# Altium integrated library TI Amplifiers and Linear Operational Amplifier High Speed.IntLib: 1100 symbols (part 29 of 44)
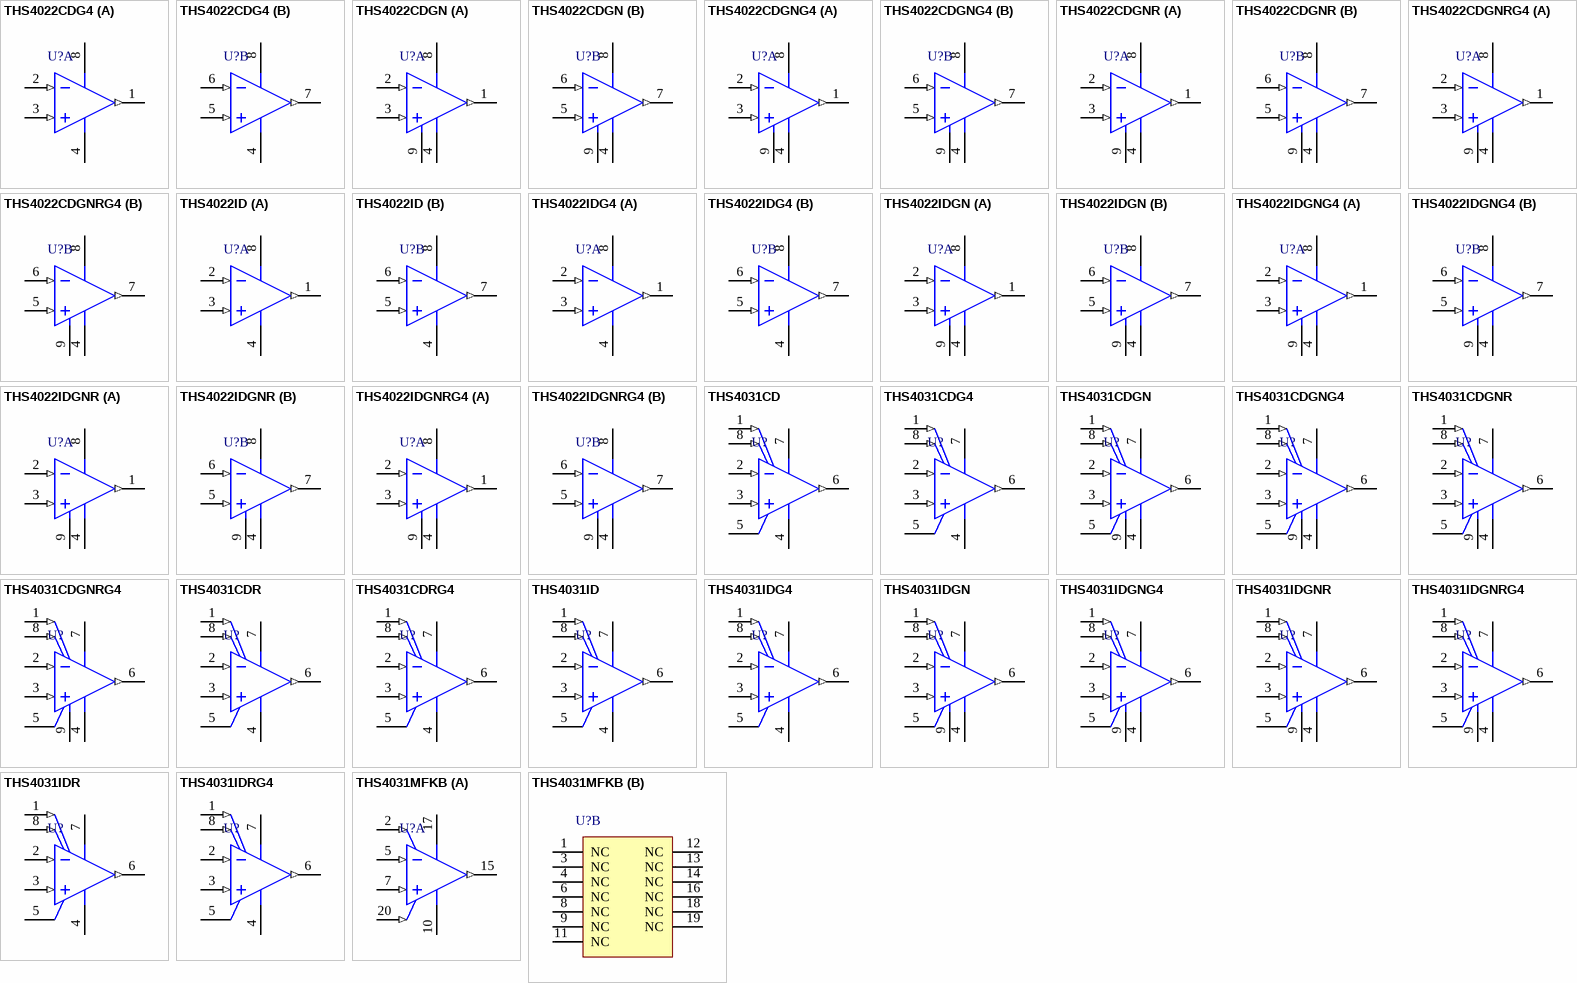
[diagram p79: symbols THS4022CDG4 to THS4031MFKB]

## THS4031IDG4
designator U?
100 MHz Low Noise Voltage-Feedback Amplifier, 9 to 32 V, -40 to 85 degC, 8-pin SOIC (D8), Green (RoHS & no Sb/Br); Manufacturer: Texas Instruments; PartNumber: THS4031IDG4; 2nd Harmonic(dBc): 65; 3rd Harmonic(dBc): 62; @ MHz: 5; Acl, min stable gain(V/V): 1; BW @ Acl(MHz): 100; Diff Gain(%): 0.015; Diff Phase(deg): 0.025; Iib(Max)(nA): 6000; Io(Typ)(mA): 90; Iq per channel(Max)(mA): 11; Settling Time (0.1%)(Typ)(ns): 60; Sub Family: High Output Current Amplifier (>=50mA), High Speed Amplifier (>=50MHz), High Supply Voltage Amplifier (>=30V); THD (Fc is 1 MHz)(Typ)(dB): -81; Vio(Max)(mV): 2; Vn at Flatband(Typ)(nV/rtHz): 1.6; Vs(Max)(V): 32; Vs(Min)(V): 9; DatasheetVersion: SLOS224G; PackageVersion: 4040047-3/M, 06/2011; PackageReference: D8; PackageDescription: 8-Pin Plastic Small Outline, Body 4.9 x 3.9 mm, Pitch 1.27 mm; Supplier 1: Digi-Key; Supplier Part Number 1: THS4031IDG4-ND; Supplier 2: Newark; Supplier Part Number 2: 33K6921; Supplier 3: Mouser; Supplier Part Number 3: 595-THS4031IDG4; Eco-Plan: Green (RoHS & no Sb/Br); Number of Channels: 1; Slew Rate(Typ)(V/us): 100; Mounting Technology: Surface Mount; Code_JEDEC: MS-012; ComponentLink1Description: Manufacturer URL; ComponentLink1URL: http://www.ti.com/; ComponentLink2Description: Datasheet; ComponentLink2URL: http://www.ti.com/general/docs/lit/getliterature.tsp?genericPartNumber=THS4031&fileType=pdf; ComponentLink3Description: Package Specification; ComponentLink3URL: http://www.ti.com/litv/pdf/msoi002j
footprint TI-D8_N (SOIC, 8-Leads, Body 4.9x3.9mm, Pitch 1.27mm, IPC Medium Density)
footprint TI-D8_L (SOIC, 8-Leads, Body 4.9x3.9mm, Pitch 1.27mm, IPC High Density)
footprint TI-D8_M (SOIC, 8-Leads, Body 4.9x3.9mm, Pitch 1.27mm, IPC Low Density)
pins: 1 NULL (in), 2 IN- (in), 3 IN+ (in), 4 VCC- (power), 5 NC, 6 OUT (out), 7 VCC+ (power), 8 NULL (in)

## THS4031IDGN
designator U?
100 MHz Low Noise Voltage-Feedback Amplifier, 9 to 32 V, -40 to 85 degC, 8-pin SOP (DGN8), Green (RoHS & no Sb/Br); Manufacturer: Texas Instruments; PartNumber: THS4031IDGN; 2nd Harmonic(dBc): 65; 3rd Harmonic(dBc): 62; @ MHz: 5; Acl, min stable gain(V/V): 1; BW @ Acl(MHz): 100; Diff Gain(%): 0.015; Diff Phase(deg): 0.025; Iib(Max)(nA): 6000; Io(Typ)(mA): 90; Iq per channel(Max)(mA): 11; Settling Time (0.1%)(Typ)(ns): 60; Sub Family: High Output Current Amplifier (>=50mA), High Speed Amplifier (>=50MHz), High Supply Voltage Amplifier (>=30V); THD (Fc is 1 MHz)(Typ)(dB): -81; Vio(Max)(mV): 2; Vn at Flatband(Typ)(nV/rtHz): 1.6; Vs(Max)(V): 32; Vs(Min)(V): 9; DatasheetVersion: SLOS224G; PackageVersion: 4073271/F, 05/2011; PackageReference: DGN8-1760X1425TP; PackageDescription: 8-pin Plastic Small Outline, Body 3 x 3 mm, Pitch 0.65 mm; Supplier 1: Digi-Key; Supplier Part Number 1: 296-10030-5-ND; Supplier 2: Farnell; Supplier Part Number 2: 8453195; Supplier 3: Newark; Supplier Part Number 3: 38K8245; Supplier 4: Newark; Supplier Part Number 4: 76C6309; Supplier 5: Mouser; Supplier Part Number 5: 595-THS4031IDGN; Eco-Plan: Green (RoHS & no Sb/Br); Number of Channels: 1; Slew Rate(Typ)(V/us): 100; Mounting Technology: Surface Mount; Code_JEDEC: MO-187; ComponentLink1Description: Manufacturer URL; ComponentLink1URL: http://www.ti.com/; ComponentLink2Description: Datasheet; ComponentLink2URL: http://www.ti.com/general/docs/lit/getliterature.tsp?genericPartNumber=THS4031&fileType=pdf; ComponentLink3Description: Package Specification; ComponentLink3URL: http://www.ti.com/litv/pdf/mpds046e
footprint TI-DGN8-1760X1425TP_N (SOP, 8-Leads, Body 3x3mm, Pitch 0.65mm, Thermal Pad 1.76x1.425mm, IPC Medium Density)
footprint TI-DGN8-1760X1425TP_L (SOP, 8-Leads, Body 3x3mm, Pitch 0.65mm, Thermal Pad 1.76x1.425mm, IPC High Density)
footprint TI-DGN8-1760X1425TP_M (SOP, 8-Leads, Body 3x3mm, Pitch 0.65mm, Thermal Pad 1.76 x 1.425 mm, IPC Low Density)
pins: 1 NULL (in), 2 IN- (in), 3 IN+ (in), 4 VCC- (power), 5 NC, 6 OUT (out), 7 VCC+ (power), 8 NULL (in), 9 EP (power)

## THS4031IDGNG4
designator U?
100 MHz Low Noise Voltage-Feedback Amplifier, 9 to 32 V, -40 to 85 degC, 8-pin SOP (DGN8), Green (RoHS & no Sb/Br); Manufacturer: Texas Instruments; PartNumber: THS4031IDGNG4; 2nd Harmonic(dBc): 65; 3rd Harmonic(dBc): 62; @ MHz: 5; Acl, min stable gain(V/V): 1; BW @ Acl(MHz): 100; Diff Gain(%): 0.015; Diff Phase(deg): 0.025; Iib(Max)(nA): 6000; Io(Typ)(mA): 90; Iq per channel(Max)(mA): 11; Settling Time (0.1%)(Typ)(ns): 60; Sub Family: High Output Current Amplifier (>=50mA), High Speed Amplifier (>=50MHz), High Supply Voltage Amplifier (>=30V); THD (Fc is 1 MHz)(Typ)(dB): -81; Vio(Max)(mV): 2; Vn at Flatband(Typ)(nV/rtHz): 1.6; Vs(Max)(V): 32; Vs(Min)(V): 9; DatasheetVersion: SLOS224G; PackageVersion: 4073271/F, 05/2011; PackageReference: DGN8-1760X1425TP; PackageDescription: 8-pin Plastic Small Outline, Body 3 x 3 mm, Pitch 0.65 mm; Supplier 1: Digi-Key; Supplier Part Number 1: THS4031IDGNG4-ND; Supplier 2: Mouser; Supplier Part Number 2: 595-THS4031IDGNG4; Eco-Plan: Green (RoHS & no Sb/Br); Number of Channels: 1; Slew Rate(Typ)(V/us): 100; Mounting Technology: Surface Mount; Code_JEDEC: MO-187; ComponentLink1Description: Manufacturer URL; ComponentLink1URL: http://www.ti.com/; ComponentLink2Description: Datasheet; ComponentLink2URL: http://www.ti.com/general/docs/lit/getliterature.tsp?genericPartNumber=THS4031&fileType=pdf; ComponentLink3Description: Package Specification; ComponentLink3URL: http://www.ti.com/litv/pdf/mpds046e
footprint TI-DGN8-1760X1425TP_N (SOP, 8-Leads, Body 3x3mm, Pitch 0.65mm, Thermal Pad 1.76x1.425mm, IPC Medium Density)
footprint TI-DGN8-1760X1425TP_L (SOP, 8-Leads, Body 3x3mm, Pitch 0.65mm, Thermal Pad 1.76x1.425mm, IPC High Density)
footprint TI-DGN8-1760X1425TP_M (SOP, 8-Leads, Body 3x3mm, Pitch 0.65mm, Thermal Pad 1.76 x 1.425 mm, IPC Low Density)
pins: 1 NULL (in), 2 IN- (in), 3 IN+ (in), 4 VCC- (power), 5 NC, 6 OUT (out), 7 VCC+ (power), 8 NULL (in), 9 EP (power)

## THS4031IDGNR
designator U?
100 MHz Low Noise Voltage-Feedback Amplifier, 9 to 32 V, -40 to 85 degC, 8-pin SOP (DGN8), Green (RoHS & no Sb/Br); Manufacturer: Texas Instruments; PartNumber: THS4031IDGNR; 2nd Harmonic(dBc): 65; 3rd Harmonic(dBc): 62; @ MHz: 5; Acl, min stable gain(V/V): 1; BW @ Acl(MHz): 100; Diff Gain(%): 0.015; Diff Phase(deg): 0.025; Iib(Max)(nA): 6000; Io(Typ)(mA): 90; Iq per channel(Max)(mA): 11; Settling Time (0.1%)(Typ)(ns): 60; Sub Family: High Output Current Amplifier (>=50mA), High Speed Amplifier (>=50MHz), High Supply Voltage Amplifier (>=30V); THD (Fc is 1 MHz)(Typ)(dB): -81; Vio(Max)(mV): 2; Vn at Flatband(Typ)(nV/rtHz): 1.6; Vs(Max)(V): 32; Vs(Min)(V): 9; DatasheetVersion: SLOS224G; PackageVersion: 4073271/F, 05/2011; PackageReference: DGN8-1760X1425TP; PackageDescription: 8-pin Plastic Small Outline, Body 3 x 3 mm, Pitch 0.65 mm; Supplier 1: Digi-Key; Supplier Part Number 1: 296-10030-2-ND; Supplier 2: Digi-Key; Supplier Part Number 2: 296-10030-1-ND; Supplier 3: Digi-Key; Supplier Part Number 3: 296-10030-6-ND; Supplier 4: Newark; Supplier Part Number 4: 76C6310; Supplier 5: Mouser; Supplier Part Number 5: 595-THS4031IDGNR; Eco-Plan: Green (RoHS & no Sb/Br); Number of Channels: 1; Slew Rate(Typ)(V/us): 100; Mounting Technology: Surface Mount; Code_JEDEC: MO-187; ComponentLink1Description: Manufacturer URL; ComponentLink1URL: http://www.ti.com/; ComponentLink2Description: Datasheet; ComponentLink2URL: http://www.ti.com/general/docs/lit/getliterature.tsp?genericPartNumber=THS4031&fileType=pdf; ComponentLink3Description: Package Specification; ComponentLink3URL: http://www.ti.com/litv/pdf/mpds046e
footprint TI-DGN8-1760X1425TP_N (SOP, 8-Leads, Body 3x3mm, Pitch 0.65mm, Thermal Pad 1.76x1.425mm, IPC Medium Density)
footprint TI-DGN8-1760X1425TP_L (SOP, 8-Leads, Body 3x3mm, Pitch 0.65mm, Thermal Pad 1.76x1.425mm, IPC High Density)
footprint TI-DGN8-1760X1425TP_M (SOP, 8-Leads, Body 3x3mm, Pitch 0.65mm, Thermal Pad 1.76 x 1.425 mm, IPC Low Density)
pins: 1 NULL (in), 2 IN- (in), 3 IN+ (in), 4 VCC- (power), 5 NC, 6 OUT (out), 7 VCC+ (power), 8 NULL (in), 9 EP (power)

## THS4031IDGNRG4
designator U?
100 MHz Low Noise Voltage-Feedback Amplifier, 9 to 32 V, -40 to 85 degC, 8-pin SOP (DGN8), Green (RoHS & no Sb/Br); Manufacturer: Texas Instruments; PartNumber: THS4031IDGNRG4; 2nd Harmonic(dBc): 65; 3rd Harmonic(dBc): 62; @ MHz: 5; Acl, min stable gain(V/V): 1; BW @ Acl(MHz): 100; Diff Gain(%): 0.015; Diff Phase(deg): 0.025; Iib(Max)(nA): 6000; Io(Typ)(mA): 90; Iq per channel(Max)(mA): 11; Settling Time (0.1%)(Typ)(ns): 60; Sub Family: High Output Current Amplifier (>=50mA), High Speed Amplifier (>=50MHz), High Supply Voltage Amplifier (>=30V); THD (Fc is 1 MHz)(Typ)(dB): -81; Vio(Max)(mV): 2; Vn at Flatband(Typ)(nV/rtHz): 1.6; Vs(Max)(V): 32; Vs(Min)(V): 9; DatasheetVersion: SLOS224G; PackageVersion: 4073271/F, 05/2011; PackageReference: DGN8-1760X1425TP; PackageDescription: 8-pin Plastic Small Outline, Body 3 x 3 mm, Pitch 0.65 mm; Supplier 1: Digi-Key; Supplier Part Number 1: THS4031IDGNRG4-ND; Supplier 2: Mouser; Supplier Part Number 2: 595-THS4031IDGNRG4; Eco-Plan: Green (RoHS & no Sb/Br); Number of Channels: 1; Slew Rate(Typ)(V/us): 100; Mounting Technology: Surface Mount; Code_JEDEC: MO-187; ComponentLink1Description: Manufacturer URL; ComponentLink1URL: http://www.ti.com/; ComponentLink2Description: Datasheet; ComponentLink2URL: http://www.ti.com/general/docs/lit/getliterature.tsp?genericPartNumber=THS4031&fileType=pdf; ComponentLink3Description: Package Specification; ComponentLink3URL: http://www.ti.com/litv/pdf/mpds046e
footprint TI-DGN8-1760X1425TP_N (SOP, 8-Leads, Body 3x3mm, Pitch 0.65mm, Thermal Pad 1.76x1.425mm, IPC Medium Density)
footprint TI-DGN8-1760X1425TP_L (SOP, 8-Leads, Body 3x3mm, Pitch 0.65mm, Thermal Pad 1.76x1.425mm, IPC High Density)
footprint TI-DGN8-1760X1425TP_M (SOP, 8-Leads, Body 3x3mm, Pitch 0.65mm, Thermal Pad 1.76 x 1.425 mm, IPC Low Density)
pins: 1 NULL (in), 2 IN- (in), 3 IN+ (in), 4 VCC- (power), 5 NC, 6 OUT (out), 7 VCC+ (power), 8 NULL (in), 9 EP (power)

## THS4031IDR
designator U?
100 MHz Low Noise Voltage-Feedback Amplifier, 9 to 32 V, -40 to 85 degC, 8-pin SOIC (D8), Green (RoHS & no Sb/Br); Manufacturer: Texas Instruments; PartNumber: THS4031IDR; 2nd Harmonic(dBc): 65; 3rd Harmonic(dBc): 62; @ MHz: 5; Acl, min stable gain(V/V): 1; BW @ Acl(MHz): 100; Diff Gain(%): 0.015; Diff Phase(deg): 0.025; Iib(Max)(nA): 6000; Io(Typ)(mA): 90; Iq per channel(Max)(mA): 11; Settling Time (0.1%)(Typ)(ns): 60; Sub Family: High Output Current Amplifier (>=50mA), High Speed Amplifier (>=50MHz), High Supply Voltage Amplifier (>=30V); THD (Fc is 1 MHz)(Typ)(dB): -81; Vio(Max)(mV): 2; Vn at Flatband(Typ)(nV/rtHz): 1.6; Vs(Max)(V): 32; Vs(Min)(V): 9; DatasheetVersion: SLOS224G; PackageVersion: 4040047-3/M, 06/2011; PackageReference: D8; PackageDescription: 8-Pin Plastic Small Outline, Body 4.9 x 3.9 mm, Pitch 1.27 mm; Supplier 1: Digi-Key; Supplier Part Number 1: THS4031IDR-ND; Supplier 2: Newark; Supplier Part Number 2: 76C6311; Supplier 3: Mouser; Supplier Part Number 3: 595-THS4031IDR; Eco-Plan: Green (RoHS & no Sb/Br); Number of Channels: 1; Slew Rate(Typ)(V/us): 100; Mounting Technology: Surface Mount; Code_JEDEC: MS-012; ComponentLink1Description: Manufacturer URL; ComponentLink1URL: http://www.ti.com/; ComponentLink2Description: Datasheet; ComponentLink2URL: http://www.ti.com/general/docs/lit/getliterature.tsp?genericPartNumber=THS4031&fileType=pdf; ComponentLink3Description: Package Specification; ComponentLink3URL: http://www.ti.com/litv/pdf/msoi002j
footprint TI-D8_N (SOIC, 8-Leads, Body 4.9x3.9mm, Pitch 1.27mm, IPC Medium Density)
footprint TI-D8_L (SOIC, 8-Leads, Body 4.9x3.9mm, Pitch 1.27mm, IPC High Density)
footprint TI-D8_M (SOIC, 8-Leads, Body 4.9x3.9mm, Pitch 1.27mm, IPC Low Density)
pins: 1 NULL (in), 2 IN- (in), 3 IN+ (in), 4 VCC- (power), 5 NC, 6 OUT (out), 7 VCC+ (power), 8 NULL (in)

## THS4031IDRG4
designator U?
100 MHz Low Noise Voltage-Feedback Amplifier, 9 to 32 V, -40 to 85 degC, 8-pin SOIC (D8), Green (RoHS & no Sb/Br); Manufacturer: Texas Instruments; PartNumber: THS4031IDRG4; 2nd Harmonic(dBc): 65; 3rd Harmonic(dBc): 62; @ MHz: 5; Acl, min stable gain(V/V): 1; BW @ Acl(MHz): 100; Diff Gain(%): 0.015; Diff Phase(deg): 0.025; Iib(Max)(nA): 6000; Io(Typ)(mA): 90; Iq per channel(Max)(mA): 11; Settling Time (0.1%)(Typ)(ns): 60; Sub Family: High Output Current Amplifier (>=50mA), High Speed Amplifier (>=50MHz), High Supply Voltage Amplifier (>=30V); THD (Fc is 1 MHz)(Typ)(dB): -81; Vio(Max)(mV): 2; Vn at Flatband(Typ)(nV/rtHz): 1.6; Vs(Max)(V): 32; Vs(Min)(V): 9; DatasheetVersion: SLOS224G; PackageVersion: 4040047-3/M, 06/2011; PackageReference: D8; PackageDescription: 8-Pin Plastic Small Outline, Body 4.9 x 3.9 mm, Pitch 1.27 mm; Supplier 1: Digi-Key; Supplier Part Number 1: THS4031IDRG4-ND; Supplier 2: Mouser; Supplier Part Number 2: 595-THS4031IDRG4; Eco-Plan: Green (RoHS & no Sb/Br); Number of Channels: 1; Slew Rate(Typ)(V/us): 100; Mounting Technology: Surface Mount; Code_JEDEC: MS-012; ComponentLink1Description: Manufacturer URL; ComponentLink1URL: http://www.ti.com/; ComponentLink2Description: Datasheet; ComponentLink2URL: http://www.ti.com/general/docs/lit/getliterature.tsp?genericPartNumber=THS4031&fileType=pdf; ComponentLink3Description: Package Specification; ComponentLink3URL: http://www.ti.com/litv/pdf/msoi002j
footprint TI-D8_N (SOIC, 8-Leads, Body 4.9x3.9mm, Pitch 1.27mm, IPC Medium Density)
footprint TI-D8_L (SOIC, 8-Leads, Body 4.9x3.9mm, Pitch 1.27mm, IPC High Density)
footprint TI-D8_M (SOIC, 8-Leads, Body 4.9x3.9mm, Pitch 1.27mm, IPC Low Density)
pins: 1 NULL (in), 2 IN- (in), 3 IN+ (in), 4 VCC- (power), 5 NC, 6 OUT (out), 7 VCC+ (power), 8 NULL (in)

## THS4031MFKB
designator U?
100 MHz Low-Noise High-Speed Amplifier, 9 to 32 V, -55 to 125 degC, 20-pin LCC (FK20); Manufacturer: Texas Instruments; PartNumber: THS4031MFKB; Sub Family: High Speed Amplifier (>=50MHz); Vs(Max)(V): 32; Vs(Min)(V): 9; DatasheetVersion: SLOS224G; PackageVersion: 4040140/D, 01/2011; PackageReference: FK20; PackageDescription: 20-Pin Ceramic, Metal Chip Carrier, Body 8.89 x 8.89 mm, Pitch 1.27 mm; Mounting Technology: Surface Mount; Code_JEDEC: MS-004; ComponentLink1Description: Manufacturer URL; ComponentLink1URL: http://www.ti.com/; ComponentLink2Description: Datasheet; ComponentLink2URL: http://www.ti.com/general/docs/lit/getliterature.tsp?genericPartNumber=THS4031M&fileType=pdf; ComponentLink3Description: Package Specification; ComponentLink3URL: http://www.ti.com/litv/pdf/mlcc006d
footprint TI-FK20_N (Leadless Chip Carrier, 20-Leads, Body 8.9x8.9mm, Pitch 1.27mm, IPC Medium Density)
footprint TI-FK20_L (Leadless Chip Carrier, 20-Leads, Body 8.9x8.9mm, Pitch 1.27mm, IPC High Density)
footprint TI-FK20_M (Leadless Chip Carrier, 20-Leads, Body 8.9x8.9mm, Pitch 1.27mm, IPC Low Density)
part A pins: 2 NULL (in), 5 IN- (in), 7 IN+ (in), 10 VCC- (power), 15 OUT (out), 17 VCC+ (power), 20 NULL (in)
part B pins: 1 NC, 3 NC, 4 NC, 6 NC, 8 NC, 9 NC, 11 NC, 12 NC, 13 NC, 14 NC, 16 NC, 18 NC, 19 NC

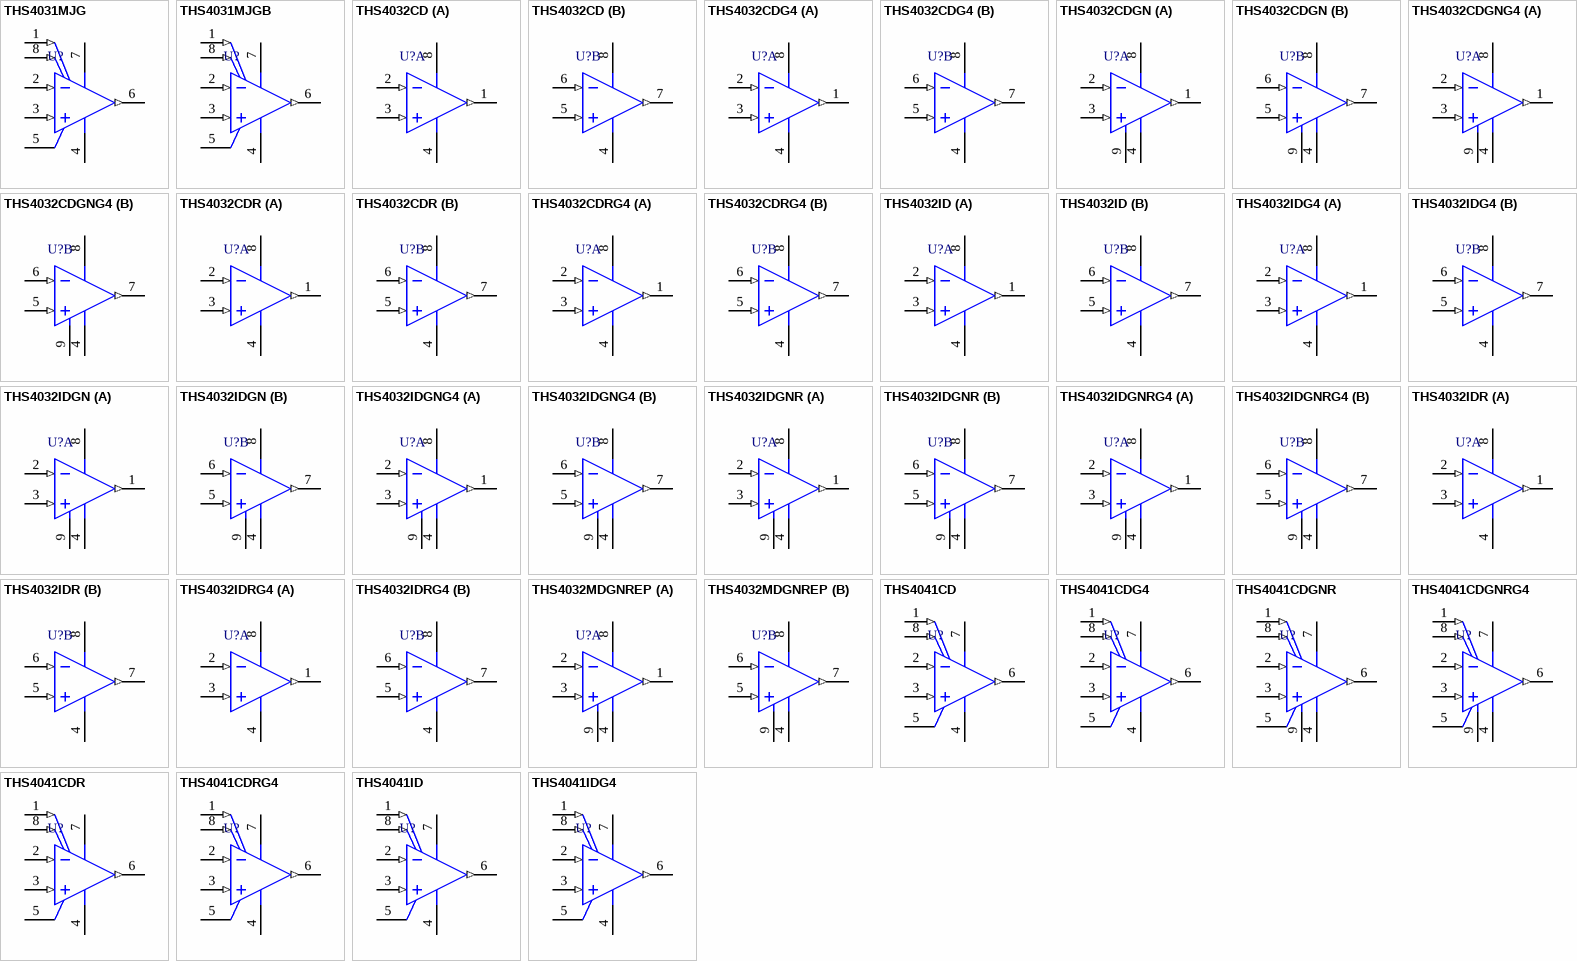
[diagram p34: symbols THS4031MJG to THS4041IDG4]

## THS4031MJG
designator U?
100 MHz Low-Noise High-Speed Amplifier, 9 to 32 V, -55 to 125 degC, 8-pin DIP (JG8); Manufacturer: Texas Instruments; PartNumber: THS4031MJG; Sub Family: High Speed Amplifier (>=50MHz); Vs(Max)(V): 32; Vs(Min)(V): 9; DatasheetVersion: SLOS224G; PackageVersion: 4040107/C, 08/1996; PackageReference: JG8; PackageDescription: 8-Pin Ceramic, Glass In-Line, Body 9.58 x 6.665 mm, Pitch 2.54 mm; Mounting Technology: Through Hole; ComponentLink1Description: Manufacturer URL; ComponentLink1URL: http://www.ti.com/; ComponentLink2Description: Datasheet; ComponentLink2URL: http://www.ti.com/general/docs/lit/getliterature.tsp?genericPartNumber=THS4031M&fileType=pdf; ComponentLink3Description: Package Specification; ComponentLink3URL: http://www.ti.com/litv/pdf/mcer001a
footprint TI-JG8 (DIP, 8-Leads, Body 10.15x7.1mm, Pitch 2.54mm)
pins: 1 NULL (in), 2 IN- (in), 3 IN+ (in), 4 VCC- (power), 5 NC, 6 OUT (out), 7 VCC+ (power), 8 NULL (in)

## THS4031MJGB
designator U?
100 MHz Low-Noise High-Speed Amplifier, 9 to 32 V, -55 to 125 degC, 8-pin DIP (JG8); Manufacturer: Texas Instruments; PartNumber: THS4031MJGB; @ MHz: 1; BW @ Acl(MHz): 100; Diff Gain(%): 0.015; Diff Phase(deg): 0.025; Iib(Max)(nA): 6000; Io(Typ)(mA): 90; Iq per channel(Max)(mA): 11; Settling Time (0.1%)(Typ)(ns): 60; Sub Family: High Speed Amplifier (>=50MHz); THD (Fc is 1 MHz)(Typ)(dB): -96; Vio(Max)(mV): 2; Vn at Flatband(Typ)(nV/rtHz): 1.6; Vs(Max)(V): 32; Vs(Min)(V): 9; DatasheetVersion: SLOS224G; PackageVersion: 4040107/C, 08/1996; PackageReference: JG8; PackageDescription: 8-Pin Ceramic, Glass In-Line, Body 9.58 x 6.665 mm, Pitch 2.54 mm; Acl, min stable gain(V/V): 1; Number of Channels: 1; Slew Rate(Typ)(V/us): 100; Mounting Technology: Through Hole; ComponentLink1Description: Manufacturer URL; ComponentLink1URL: http://www.ti.com/; ComponentLink2Description: Datasheet; ComponentLink2URL: http://www.ti.com/general/docs/lit/getliterature.tsp?genericPartNumber=THS4031M&fileType=pdf; ComponentLink3Description: Package Specification; ComponentLink3URL: http://www.ti.com/litv/pdf/mcer001a
footprint TI-JG8 (DIP, 8-Leads, Body 10.15x7.1mm, Pitch 2.54mm)
pins: 1 NULL (in), 2 IN- (in), 3 IN+ (in), 4 VCC- (power), 5 NC, 6 OUT (out), 7 VCC+ (power), 8 NULL (in)

## THS4032CD
designator U?
100 MHz Low Noise Voltage-Feedback Amplifier, Dual, 9 to 32 V, 0 to 70 degC, 8-pin SOIC (D8), Green (RoHS & no Sb/Br); Manufacturer: Texas Instruments; PartNumber: THS4032CD; 2nd Harmonic(dBc): 55; 3rd Harmonic(dBc): 62; @ MHz: 5; Acl, min stable gain(V/V): 1; BW @ Acl(MHz): 100; Diff Gain(%): 0.015; Diff Phase(deg): 0.025; Iib(Max)(nA): 8000; Io(Typ)(mA): 90; Iq per channel(Max)(mA): 11; Number of Channels: 2; Settling Time (0.1%)(Typ)(ns): 60; Sub Family: High Output Current Amplifier (>=50mA), High Speed Amplifier (>=50MHz), High Supply Voltage Amplifier (>=30V); THD (Fc is 1 MHz)(Typ)(dB): -72; Vn at Flatband(Typ)(nV/rtHz): 1.6; Vs(Max)(V): 32; Vs(Min)(V): 9; DatasheetVersion: SLOS224G; PackageVersion: 4040047-3/M, 06/2011; PackageReference: D8; PackageDescription: 8-Pin Plastic Small Outline, Body 4.9 x 3.9 mm, Pitch 1.27 mm; Supplier 1: Digi-Key; Supplier Part Number 1: 296-7524-5-ND; Supplier 2: Farnell; Supplier Part Number 2: 8453209; Supplier 3: Newark; Supplier Part Number 3: 38K8246; Supplier 4: Newark; Supplier Part Number 4: 19C8973; Supplier 5: Mouser; Supplier Part Number 5: 595-THS4032CD; Eco-Plan: Green (RoHS & no Sb/Br); Slew Rate(Typ)(V/us): 100; Vio(Max)(mV): 2; Mounting Technology: Surface Mount; Code_JEDEC: MS-012; ComponentLink1Description: Manufacturer URL; ComponentLink1URL: http://www.ti.com/; ComponentLink2Description: Datasheet; ComponentLink2URL: http://www.ti.com/general/docs/lit/getliterature.tsp?genericPartNumber=THS4032&fileType=pdf; ComponentLink3Description: Package Specification; ComponentLink3URL: http://www.ti.com/litv/pdf/msoi002j
footprint TI-D8_N (SOIC, 8-Leads, Body 4.9x3.9mm, Pitch 1.27mm, IPC Medium Density)
footprint TI-D8_L (SOIC, 8-Leads, Body 4.9x3.9mm, Pitch 1.27mm, IPC High Density)
footprint TI-D8_M (SOIC, 8-Leads, Body 4.9x3.9mm, Pitch 1.27mm, IPC Low Density)
pins on every part: 4 VCC- (power), 8 VCC+ (power)
part A pins: 1 OUT1 (out), 2 IN1- (in), 3 IN1+ (in)
part B pins: 5 IN2+ (in), 6 IN2- (in), 7 OUT2 (out)

## THS4032CDG4
designator U?
100 MHz Low Noise Voltage-Feedback Amplifier, Dual, 9 to 32 V, 0 to 70 degC, 8-pin SOIC (D8), Green (RoHS & no Sb/Br); Manufacturer: Texas Instruments; PartNumber: THS4032CDG4; 2nd Harmonic(dBc): 55; 3rd Harmonic(dBc): 62; @ MHz: 5; Acl, min stable gain(V/V): 1; BW @ Acl(MHz): 100; Diff Gain(%): 0.015; Diff Phase(deg): 0.025; Iib(Max)(nA): 8000; Io(Typ)(mA): 90; Iq per channel(Max)(mA): 11; Number of Channels: 2; Settling Time (0.1%)(Typ)(ns): 60; Sub Family: High Output Current Amplifier (>=50mA), High Speed Amplifier (>=50MHz), High Supply Voltage Amplifier (>=30V); THD (Fc is 1 MHz)(Typ)(dB): -72; Vn at Flatband(Typ)(nV/rtHz): 1.6; Vs(Max)(V): 32; Vs(Min)(V): 9; DatasheetVersion: SLOS224G; PackageVersion: 4040047-3/M, 06/2011; PackageReference: D8; PackageDescription: 8-Pin Plastic Small Outline, Body 4.9 x 3.9 mm, Pitch 1.27 mm; Supplier 1: Digi-Key; Supplier Part Number 1: THS4032CDG4-ND; Supplier 2: Newark; Supplier Part Number 2: 66K4317; Supplier 3: Mouser; Supplier Part Number 3: 595-THS4032CDG4; Eco-Plan: Green (RoHS & no Sb/Br); Slew Rate(Typ)(V/us): 100; Vio(Max)(mV): 2; Mounting Technology: Surface Mount; Code_JEDEC: MS-012; ComponentLink1Description: Manufacturer URL; ComponentLink1URL: http://www.ti.com/; ComponentLink2Description: Datasheet; ComponentLink2URL: http://www.ti.com/general/docs/lit/getliterature.tsp?genericPartNumber=THS4032&fileType=pdf; ComponentLink3Description: Package Specification; ComponentLink3URL: http://www.ti.com/litv/pdf/msoi002j
footprint TI-D8_N (SOIC, 8-Leads, Body 4.9x3.9mm, Pitch 1.27mm, IPC Medium Density)
footprint TI-D8_L (SOIC, 8-Leads, Body 4.9x3.9mm, Pitch 1.27mm, IPC High Density)
footprint TI-D8_M (SOIC, 8-Leads, Body 4.9x3.9mm, Pitch 1.27mm, IPC Low Density)
pins on every part: 4 VCC- (power), 8 VCC+ (power)
part A pins: 1 OUT1 (out), 2 IN1- (in), 3 IN1+ (in)
part B pins: 5 IN2+ (in), 6 IN2- (in), 7 OUT2 (out)

## THS4032CDGN
designator U?
100 MHz Low Noise Voltage-Feedback Amplifier, Dual, 9 to 32 V, 0 to 70 degC, 8-pin SOP (DGN8), Green (RoHS & no Sb/Br); Manufacturer: Texas Instruments; PartNumber: THS4032CDGN; 2nd Harmonic(dBc): 55; 3rd Harmonic(dBc): 62; @ MHz: 5; Acl, min stable gain(V/V): 1; BW @ Acl(MHz): 100; Diff Gain(%): 0.015; Diff Phase(deg): 0.025; Iib(Max)(nA): 8000; Io(Typ)(mA): 90; Iq per channel(Max)(mA): 11; Number of Channels: 2; Settling Time (0.1%)(Typ)(ns): 60; Sub Family: High Output Current Amplifier (>=50mA), High Speed Amplifier (>=50MHz), High Supply Voltage Amplifier (>=30V); THD (Fc is 1 MHz)(Typ)(dB): -72; Vn at Flatband(Typ)(nV/rtHz): 1.6; Vs(Max)(V): 32; Vs(Min)(V): 9; DatasheetVersion: SLOS224G; PackageVersion: 4073271/F, 05/2011; PackageReference: DGN8-1760X1425TP; PackageDescription: 8-pin Plastic Small Outline, Body 3 x 3 mm, Pitch 0.65 mm; Supplier 1: Digi-Key; Supplier Part Number 1: 296-34206-5-ND; Supplier 2: Mouser; Supplier Part Number 2: 595-THS4032CDGN; Eco-Plan: Green (RoHS & no Sb/Br); Slew Rate(Typ)(V/us): 100; Vio(Max)(mV): 2; Mounting Technology: Surface Mount; Code_JEDEC: MO-187; ComponentLink1Description: Manufacturer URL; ComponentLink1URL: http://www.ti.com/; ComponentLink2Description: Datasheet; ComponentLink2URL: http://www.ti.com/general/docs/lit/getliterature.tsp?genericPartNumber=THS4032&fileType=pdf; ComponentLink3Description: Package Specification; ComponentLink3URL: http://www.ti.com/litv/pdf/mpds046e
footprint TI-DGN8-1760X1425TP_N (SOP, 8-Leads, Body 3x3mm, Pitch 0.65mm, Thermal Pad 1.76x1.425mm, IPC Medium Density)
footprint TI-DGN8-1760X1425TP_L (SOP, 8-Leads, Body 3x3mm, Pitch 0.65mm, Thermal Pad 1.76x1.425mm, IPC High Density)
footprint TI-DGN8-1760X1425TP_M (SOP, 8-Leads, Body 3x3mm, Pitch 0.65mm, Thermal Pad 1.76 x 1.425 mm, IPC Low Density)
pins on every part: 4 VCC- (power), 8 VCC+ (power), 9 EP
part A pins: 1 OUT1 (out), 2 IN1- (in), 3 IN1+ (in)
part B pins: 5 IN2+ (in), 6 IN2- (in), 7 OUT2 (out)

## THS4032CDGNG4
designator U?
100 MHz Low Noise Voltage-Feedback Amplifier, Dual, 9 to 32 V, 0 to 70 degC, 8-pin SOP (DGN8), Green (RoHS & no Sb/Br); Manufacturer: Texas Instruments; PartNumber: THS4032CDGNG4; 2nd Harmonic(dBc): 55; 3rd Harmonic(dBc): 62; @ MHz: 5; Acl, min stable gain(V/V): 1; BW @ Acl(MHz): 100; Diff Gain(%): 0.015; Diff Phase(deg): 0.025; Iib(Max)(nA): 8000; Io(Typ)(mA): 90; Iq per channel(Max)(mA): 11; Number of Channels: 2; Settling Time (0.1%)(Typ)(ns): 60; Sub Family: High Output Current Amplifier (>=50mA), High Speed Amplifier (>=50MHz), High Supply Voltage Amplifier (>=30V); THD (Fc is 1 MHz)(Typ)(dB): -72; Vn at Flatband(Typ)(nV/rtHz): 1.6; Vs(Max)(V): 32; Vs(Min)(V): 9; DatasheetVersion: SLOS224G; PackageVersion: 4073271/F, 05/2011; PackageReference: DGN8-1760X1425TP; PackageDescription: 8-pin Plastic Small Outline, Body 3 x 3 mm, Pitch 0.65 mm; Supplier 1: Digi-Key; Supplier Part Number 1: THS4032CDGNG4-ND; Supplier 2: Mouser; Supplier Part Number 2: 595-THS4032CDGNG4; Eco-Plan: Green (RoHS & no Sb/Br); Slew Rate(Typ)(V/us): 100; Vio(Max)(mV): 2; Mounting Technology: Surface Mount; Code_JEDEC: MO-187; ComponentLink1Description: Manufacturer URL; ComponentLink1URL: http://www.ti.com/; ComponentLink2Description: Datasheet; ComponentLink2URL: http://www.ti.com/general/docs/lit/getliterature.tsp?genericPartNumber=THS4032&fileType=pdf; ComponentLink3Description: Package Specification; ComponentLink3URL: http://www.ti.com/litv/pdf/mpds046e
footprint TI-DGN8-1760X1425TP_N (SOP, 8-Leads, Body 3x3mm, Pitch 0.65mm, Thermal Pad 1.76x1.425mm, IPC Medium Density)
footprint TI-DGN8-1760X1425TP_L (SOP, 8-Leads, Body 3x3mm, Pitch 0.65mm, Thermal Pad 1.76x1.425mm, IPC High Density)
footprint TI-DGN8-1760X1425TP_M (SOP, 8-Leads, Body 3x3mm, Pitch 0.65mm, Thermal Pad 1.76 x 1.425 mm, IPC Low Density)
pins on every part: 4 VCC- (power), 8 VCC+ (power), 9 EP
part A pins: 1 OUT1 (out), 2 IN1- (in), 3 IN1+ (in)
part B pins: 5 IN2+ (in), 6 IN2- (in), 7 OUT2 (out)

## THS4032CDR
designator U?
100 MHz Low Noise Voltage-Feedback Amplifier, Dual, 9 to 32 V, 0 to 70 degC, 8-pin SOIC (D8), Green (RoHS & no Sb/Br); Manufacturer: Texas Instruments; PartNumber: THS4032CDR; 2nd Harmonic(dBc): 55; 3rd Harmonic(dBc): 62; @ MHz: 5; Acl, min stable gain(V/V): 1; BW @ Acl(MHz): 100; Diff Gain(%): 0.015; Diff Phase(deg): 0.025; Iib(Max)(nA): 8000; Io(Typ)(mA): 90; Iq per channel(Max)(mA): 11; Number of Channels: 2; Settling Time (0.1%)(Typ)(ns): 60; Sub Family: High Output Current Amplifier (>=50mA), High Speed Amplifier (>=50MHz), High Supply Voltage Amplifier (>=30V); THD (Fc is 1 MHz)(Typ)(dB): -72; Vn at Flatband(Typ)(nV/rtHz): 1.6; Vs(Max)(V): 32; Vs(Min)(V): 9; DatasheetVersion: SLOS224G; PackageVersion: 4040047-3/M, 06/2011; PackageReference: D8; PackageDescription: 8-Pin Plastic Small Outline, Body 4.9 x 3.9 mm, Pitch 1.27 mm; Supplier 1: Digi-Key; Supplier Part Number 1: THS4032CDR-ND; Supplier 2: Newark; Supplier Part Number 2: 76C6314; Supplier 3: Mouser; Supplier Part Number 3: 595-THS4032CDR; Eco-Plan: Green (RoHS & no Sb/Br); Slew Rate(Typ)(V/us): 100; Vio(Max)(mV): 2; Mounting Technology: Surface Mount; Code_JEDEC: MS-012; ComponentLink1Description: Manufacturer URL; ComponentLink1URL: http://www.ti.com/; ComponentLink2Description: Datasheet; ComponentLink2URL: http://www.ti.com/general/docs/lit/getliterature.tsp?genericPartNumber=THS4032&fileType=pdf; ComponentLink3Description: Package Specification; ComponentLink3URL: http://www.ti.com/litv/pdf/msoi002j
footprint TI-D8_N (SOIC, 8-Leads, Body 4.9x3.9mm, Pitch 1.27mm, IPC Medium Density)
footprint TI-D8_L (SOIC, 8-Leads, Body 4.9x3.9mm, Pitch 1.27mm, IPC High Density)
footprint TI-D8_M (SOIC, 8-Leads, Body 4.9x3.9mm, Pitch 1.27mm, IPC Low Density)
pins on every part: 4 VCC- (power), 8 VCC+ (power)
part A pins: 1 OUT1 (out), 2 IN1- (in), 3 IN1+ (in)
part B pins: 5 IN2+ (in), 6 IN2- (in), 7 OUT2 (out)

## THS4032CDRG4
designator U?
100 MHz Low Noise Voltage-Feedback Amplifier, Dual, 9 to 32 V, 0 to 70 degC, 8-pin SOIC (D8), Green (RoHS & no Sb/Br); Manufacturer: Texas Instruments; PartNumber: THS4032CDRG4; 2nd Harmonic(dBc): 55; 3rd Harmonic(dBc): 62; @ MHz: 5; Acl, min stable gain(V/V): 1; BW @ Acl(MHz): 100; Diff Gain(%): 0.015; Diff Phase(deg): 0.025; Iib(Max)(nA): 8000; Io(Typ)(mA): 90; Iq per channel(Max)(mA): 11; Number of Channels: 2; Settling Time (0.1%)(Typ)(ns): 60; Sub Family: High Output Current Amplifier (>=50mA), High Speed Amplifier (>=50MHz), High Supply Voltage Amplifier (>=30V); THD (Fc is 1 MHz)(Typ)(dB): -72; Vn at Flatband(Typ)(nV/rtHz): 1.6; Vs(Max)(V): 32; Vs(Min)(V): 9; DatasheetVersion: SLOS224G; PackageVersion: 4040047-3/M, 06/2011; PackageReference: D8; PackageDescription: 8-Pin Plastic Small Outline, Body 4.9 x 3.9 mm, Pitch 1.27 mm; Supplier 1: Digi-Key; Supplier Part Number 1: THS4032CDRG4-ND; Supplier 2: Mouser; Supplier Part Number 2: 595-THS4032CDRG4; Eco-Plan: Green (RoHS & no Sb/Br); Slew Rate(Typ)(V/us): 100; Vio(Max)(mV): 2; Mounting Technology: Surface Mount; Code_JEDEC: MS-012; ComponentLink1Description: Manufacturer URL; ComponentLink1URL: http://www.ti.com/; ComponentLink2Description: Datasheet; ComponentLink2URL: http://www.ti.com/general/docs/lit/getliterature.tsp?genericPartNumber=THS4032&fileType=pdf; ComponentLink3Description: Package Specification; ComponentLink3URL: http://www.ti.com/litv/pdf/msoi002j
footprint TI-D8_N (SOIC, 8-Leads, Body 4.9x3.9mm, Pitch 1.27mm, IPC Medium Density)
footprint TI-D8_L (SOIC, 8-Leads, Body 4.9x3.9mm, Pitch 1.27mm, IPC High Density)
footprint TI-D8_M (SOIC, 8-Leads, Body 4.9x3.9mm, Pitch 1.27mm, IPC Low Density)
pins on every part: 4 VCC- (power), 8 VCC+ (power)
part A pins: 1 OUT1 (out), 2 IN1- (in), 3 IN1+ (in)
part B pins: 5 IN2+ (in), 6 IN2- (in), 7 OUT2 (out)

## THS4032ID
designator U?
100 MHz Low Noise Voltage-Feedback Amplifier, Dual, 9 to 32 V, -40 to 85 degC, 8-pin SOIC (D8), Green (RoHS & no Sb/Br); Manufacturer: Texas Instruments; PartNumber: THS4032ID; 2nd Harmonic(dBc): 55; 3rd Harmonic(dBc): 62; @ MHz: 5; Acl, min stable gain(V/V): 1; BW @ Acl(MHz): 100; Diff Gain(%): 0.015; Diff Phase(deg): 0.025; Iib(Max)(nA): 8000; Io(Typ)(mA): 90; Iq per channel(Max)(mA): 11; Number of Channels: 2; Settling Time (0.1%)(Typ)(ns): 60; Sub Family: High Output Current Amplifier (>=50mA), High Speed Amplifier (>=50MHz), High Supply Voltage Amplifier (>=30V); THD (Fc is 1 MHz)(Typ)(dB): -72; Vn at Flatband(Typ)(nV/rtHz): 1.6; Vs(Max)(V): 32; Vs(Min)(V): 9; DatasheetVersion: SLOS224G; PackageVersion: 4040047-3/M, 06/2011; PackageReference: D8; PackageDescription: 8-Pin Plastic Small Outline, Body 4.9 x 3.9 mm, Pitch 1.27 mm; Supplier 1: Digi-Key; Supplier Part Number 1: 296-7525-5-ND; Supplier 2: Farnell; Supplier Part Number 2: 8453217; Supplier 3: Newark; Supplier Part Number 3: 76C6316; Supplier 4: Mouser; Supplier Part Number 4: 595-THS4032ID; Eco-Plan: Green (RoHS & no Sb/Br); Slew Rate(Typ)(V/us): 100; Vio(Max)(mV): 2; Mounting Technology: Surface Mount; Code_JEDEC: MS-012; ComponentLink1Description: Manufacturer URL; ComponentLink1URL: http://www.ti.com/; ComponentLink2Description: Datasheet; ComponentLink2URL: http://www.ti.com/general/docs/lit/getliterature.tsp?genericPartNumber=THS4032&fileType=pdf; ComponentLink3Description: Package Specification; ComponentLink3URL: http://www.ti.com/litv/pdf/msoi002j
footprint TI-D8_N (SOIC, 8-Leads, Body 4.9x3.9mm, Pitch 1.27mm, IPC Medium Density)
footprint TI-D8_L (SOIC, 8-Leads, Body 4.9x3.9mm, Pitch 1.27mm, IPC High Density)
footprint TI-D8_M (SOIC, 8-Leads, Body 4.9x3.9mm, Pitch 1.27mm, IPC Low Density)
pins on every part: 4 VCC- (power), 8 VCC+ (power)
part A pins: 1 OUT1 (out), 2 IN1- (in), 3 IN1+ (in)
part B pins: 5 IN2+ (in), 6 IN2- (in), 7 OUT2 (out)

## THS4032IDG4
designator U?
100 MHz Low Noise Voltage-Feedback Amplifier, Dual, 9 to 32 V, -40 to 85 degC, 8-pin SOIC (D8), Green (RoHS & no Sb/Br); Manufacturer: Texas Instruments; PartNumber: THS4032IDG4; 2nd Harmonic(dBc): 55; 3rd Harmonic(dBc): 62; @ MHz: 5; Acl, min stable gain(V/V): 1; BW @ Acl(MHz): 100; Diff Gain(%): 0.015; Diff Phase(deg): 0.025; Iib(Max)(nA): 8000; Io(Typ)(mA): 90; Iq per channel(Max)(mA): 11; Number of Channels: 2; Settling Time (0.1%)(Typ)(ns): 60; Sub Family: High Output Current Amplifier (>=50mA), High Speed Amplifier (>=50MHz), High Supply Voltage Amplifier (>=30V); THD (Fc is 1 MHz)(Typ)(dB): -72; Vn at Flatband(Typ)(nV/rtHz): 1.6; Vs(Max)(V): 32; Vs(Min)(V): 9; DatasheetVersion: SLOS224G; PackageVersion: 4040047-3/M, 06/2011; PackageReference: D8; PackageDescription: 8-Pin Plastic Small Outline, Body 4.9 x 3.9 mm, Pitch 1.27 mm; Supplier 1: Digi-Key; Supplier Part Number 1: THS4032IDG4-ND; Supplier 2: Newark; Supplier Part Number 2: 33K6924; Supplier 3: Mouser; Supplier Part Number 3: 595-THS4032IDG4; Eco-Plan: Green (RoHS & no Sb/Br); Slew Rate(Typ)(V/us): 100; Vio(Max)(mV): 2; Mounting Technology: Surface Mount; Code_JEDEC: MS-012; ComponentLink1Description: Manufacturer URL; ComponentLink1URL: http://www.ti.com/; ComponentLink2Description: Datasheet; ComponentLink2URL: http://www.ti.com/general/docs/lit/getliterature.tsp?genericPartNumber=THS4032&fileType=pdf; ComponentLink3Description: Package Specification; ComponentLink3URL: http://www.ti.com/litv/pdf/msoi002j
footprint TI-D8_N (SOIC, 8-Leads, Body 4.9x3.9mm, Pitch 1.27mm, IPC Medium Density)
footprint TI-D8_L (SOIC, 8-Leads, Body 4.9x3.9mm, Pitch 1.27mm, IPC High Density)
footprint TI-D8_M (SOIC, 8-Leads, Body 4.9x3.9mm, Pitch 1.27mm, IPC Low Density)
pins on every part: 4 VCC- (power), 8 VCC+ (power)
part A pins: 1 OUT1 (out), 2 IN1- (in), 3 IN1+ (in)
part B pins: 5 IN2+ (in), 6 IN2- (in), 7 OUT2 (out)

## THS4032IDGN
designator U?
100 MHz Low Noise Voltage-Feedback Amplifier, Dual, 9 to 32 V, -40 to 85 degC, 8-pin SOP (DGN8), Green (RoHS & no Sb/Br); Manufacturer: Texas Instruments; PartNumber: THS4032IDGN; 2nd Harmonic(dBc): 55; 3rd Harmonic(dBc): 62; @ MHz: 5; Acl, min stable gain(V/V): 1; BW @ Acl(MHz): 100; Diff Gain(%): 0.015; Diff Phase(deg): 0.025; Iib(Max)(nA): 8000; Io(Typ)(mA): 90; Iq per channel(Max)(mA): 11; Number of Channels: 2; Settling Time (0.1%)(Typ)(ns): 60; Sub Family: High Output Current Amplifier (>=50mA), High Speed Amplifier (>=50MHz), High Supply Voltage Amplifier (>=30V); THD (Fc is 1 MHz)(Typ)(dB): -72; Vn at Flatband(Typ)(nV/rtHz): 1.6; Vs(Max)(V): 32; Vs(Min)(V): 9; DatasheetVersion: SLOS224G; PackageVersion: 4073271/F, 05/2011; PackageReference: DGN8-1760X1425TP; PackageDescription: 8-pin Plastic Small Outline, Body 3 x 3 mm, Pitch 0.65 mm; Supplier 1: Digi-Key; Supplier Part Number 1: 296-34207-5-ND; Supplier 2: Mouser; Supplier Part Number 2: 595-THS4032IDGN; Eco-Plan: Green (RoHS & no Sb/Br); Slew Rate(Typ)(V/us): 100; Vio(Max)(mV): 2; Mounting Technology: Surface Mount; Code_JEDEC: MO-187; ComponentLink1Description: Manufacturer URL; ComponentLink1URL: http://www.ti.com/; ComponentLink2Description: Datasheet; ComponentLink2URL: http://www.ti.com/general/docs/lit/getliterature.tsp?genericPartNumber=THS4032&fileType=pdf; ComponentLink3Description: Package Specification; ComponentLink3URL: http://www.ti.com/litv/pdf/mpds046e
footprint TI-DGN8-1760X1425TP_N (SOP, 8-Leads, Body 3x3mm, Pitch 0.65mm, Thermal Pad 1.76x1.425mm, IPC Medium Density)
footprint TI-DGN8-1760X1425TP_L (SOP, 8-Leads, Body 3x3mm, Pitch 0.65mm, Thermal Pad 1.76x1.425mm, IPC High Density)
footprint TI-DGN8-1760X1425TP_M (SOP, 8-Leads, Body 3x3mm, Pitch 0.65mm, Thermal Pad 1.76 x 1.425 mm, IPC Low Density)
pins on every part: 4 VCC- (power), 8 VCC+ (power), 9 EP
part A pins: 1 OUT1 (out), 2 IN1- (in), 3 IN1+ (in)
part B pins: 5 IN2+ (in), 6 IN2- (in), 7 OUT2 (out)

## THS4032IDGNG4
designator U?
100 MHz Low Noise Voltage-Feedback Amplifier, Dual, 9 to 32 V, -40 to 85 degC, 8-pin SOP (DGN8), Green (RoHS & no Sb/Br); Manufacturer: Texas Instruments; PartNumber: THS4032IDGNG4; 2nd Harmonic(dBc): 55; 3rd Harmonic(dBc): 62; @ MHz: 5; Acl, min stable gain(V/V): 1; BW @ Acl(MHz): 100; Diff Gain(%): 0.015; Diff Phase(deg): 0.025; Iib(Max)(nA): 8000; Io(Typ)(mA): 90; Iq per channel(Max)(mA): 11; Number of Channels: 2; Settling Time (0.1%)(Typ)(ns): 60; Sub Family: High Output Current Amplifier (>=50mA), High Speed Amplifier (>=50MHz), High Supply Voltage Amplifier (>=30V); THD (Fc is 1 MHz)(Typ)(dB): -72; Vn at Flatband(Typ)(nV/rtHz): 1.6; Vs(Max)(V): 32; Vs(Min)(V): 9; DatasheetVersion: SLOS224G; PackageVersion: 4073271/F, 05/2011; PackageReference: DGN8-1760X1425TP; PackageDescription: 8-pin Plastic Small Outline, Body 3 x 3 mm, Pitch 0.65 mm; Supplier 1: Digi-Key; Supplier Part Number 1: THS4032IDGNG4-ND; Supplier 2: Newark; Supplier Part Number 2: 71J7932; Supplier 3: Mouser; Supplier Part Number 3: 595-THS4032IDGNG4; Eco-Plan: Green (RoHS & no Sb/Br); Slew Rate(Typ)(V/us): 100; Vio(Max)(mV): 2; Mounting Technology: Surface Mount; Code_JEDEC: MO-187; ComponentLink1Description: Manufacturer URL; ComponentLink1URL: http://www.ti.com/; ComponentLink2Description: Datasheet; ComponentLink2URL: http://www.ti.com/general/docs/lit/getliterature.tsp?genericPartNumber=THS4032&fileType=pdf; ComponentLink3Description: Package Specification; ComponentLink3URL: http://www.ti.com/litv/pdf/mpds046e
footprint TI-DGN8-1760X1425TP_N (SOP, 8-Leads, Body 3x3mm, Pitch 0.65mm, Thermal Pad 1.76x1.425mm, IPC Medium Density)
footprint TI-DGN8-1760X1425TP_L (SOP, 8-Leads, Body 3x3mm, Pitch 0.65mm, Thermal Pad 1.76x1.425mm, IPC High Density)
footprint TI-DGN8-1760X1425TP_M (SOP, 8-Leads, Body 3x3mm, Pitch 0.65mm, Thermal Pad 1.76 x 1.425 mm, IPC Low Density)
pins on every part: 4 VCC- (power), 8 VCC+ (power), 9 EP
part A pins: 1 OUT1 (out), 2 IN1- (in), 3 IN1+ (in)
part B pins: 5 IN2+ (in), 6 IN2- (in), 7 OUT2 (out)

## THS4032IDGNR
designator U?
100 MHz Low Noise Voltage-Feedback Amplifier, Dual, 9 to 32 V, -40 to 85 degC, 8-pin SOP (DGN8), Green (RoHS & no Sb/Br); Manufacturer: Texas Instruments; PartNumber: THS4032IDGNR; 2nd Harmonic(dBc): 55; 3rd Harmonic(dBc): 62; @ MHz: 5; Acl, min stable gain(V/V): 1; BW @ Acl(MHz): 100; Diff Gain(%): 0.015; Diff Phase(deg): 0.025; Iib(Max)(nA): 8000; Io(Typ)(mA): 90; Iq per channel(Max)(mA): 11; Number of Channels: 2; Settling Time (0.1%)(Typ)(ns): 60; Sub Family: High Output Current Amplifier (>=50mA), High Speed Amplifier (>=50MHz), High Supply Voltage Amplifier (>=30V); THD (Fc is 1 MHz)(Typ)(dB): -72; Vn at Flatband(Typ)(nV/rtHz): 1.6; Vs(Max)(V): 32; Vs(Min)(V): 9; DatasheetVersion: SLOS224G; PackageVersion: 4073271/F, 05/2011; PackageReference: DGN8-1760X1425TP; PackageDescription: 8-pin Plastic Small Outline, Body 3 x 3 mm, Pitch 0.65 mm; Supplier 1: Digi-Key; Supplier Part Number 1: 296-7526-2-ND; Supplier 2: Digi-Key; Supplier Part Number 2: 296-7526-1-ND; Supplier 3: Digi-Key; Supplier Part Number 3: 296-7526-6-ND; Supplier 4: Newark; Supplier Part Number 4: 76C6317; Supplier 5: Mouser; Supplier Part Number 5: 595-THS4032IDGNR; Eco-Plan: Green (RoHS & no Sb/Br); Slew Rate(Typ)(V/us): 100; Vio(Max)(mV): 2; Mounting Technology: Surface Mount; Code_JEDEC: MO-187; ComponentLink1Description: Manufacturer URL; ComponentLink1URL: http://www.ti.com/; ComponentLink2Description: Datasheet; ComponentLink2URL: http://www.ti.com/general/docs/lit/getliterature.tsp?genericPartNumber=THS4032&fileType=pdf; ComponentLink3Description: Package Specification; ComponentLink3URL: http://www.ti.com/litv/pdf/mpds046e
footprint TI-DGN8-1760X1425TP_N (SOP, 8-Leads, Body 3x3mm, Pitch 0.65mm, Thermal Pad 1.76x1.425mm, IPC Medium Density)
footprint TI-DGN8-1760X1425TP_L (SOP, 8-Leads, Body 3x3mm, Pitch 0.65mm, Thermal Pad 1.76x1.425mm, IPC High Density)
footprint TI-DGN8-1760X1425TP_M (SOP, 8-Leads, Body 3x3mm, Pitch 0.65mm, Thermal Pad 1.76 x 1.425 mm, IPC Low Density)
pins on every part: 4 VCC- (power), 8 VCC+ (power), 9 EP
part A pins: 1 OUT1 (out), 2 IN1- (in), 3 IN1+ (in)
part B pins: 5 IN2+ (in), 6 IN2- (in), 7 OUT2 (out)

## THS4032IDGNRG4
designator U?
100 MHz Low Noise Voltage-Feedback Amplifier, Dual, 9 to 32 V, -40 to 85 degC, 8-pin SOP (DGN8), Green (RoHS & no Sb/Br); Manufacturer: Texas Instruments; PartNumber: THS4032IDGNRG4; 2nd Harmonic(dBc): 55; 3rd Harmonic(dBc): 62; @ MHz: 5; Acl, min stable gain(V/V): 1; BW @ Acl(MHz): 100; Diff Gain(%): 0.015; Diff Phase(deg): 0.025; Iib(Max)(nA): 8000; Io(Typ)(mA): 90; Iq per channel(Max)(mA): 11; Number of Channels: 2; Settling Time (0.1%)(Typ)(ns): 60; Sub Family: High Output Current Amplifier (>=50mA), High Speed Amplifier (>=50MHz), High Supply Voltage Amplifier (>=30V); THD (Fc is 1 MHz)(Typ)(dB): -72; Vn at Flatband(Typ)(nV/rtHz): 1.6; Vs(Max)(V): 32; Vs(Min)(V): 9; DatasheetVersion: SLOS224G; PackageVersion: 4073271/F, 05/2011; PackageReference: DGN8-1760X1425TP; PackageDescription: 8-pin Plastic Small Outline, Body 3 x 3 mm, Pitch 0.65 mm; Supplier 1: Digi-Key; Supplier Part Number 1: THS4032IDGNRG4-ND; Supplier 2: Mouser; Supplier Part Number 2: 595-THS4032IDGNRG4; Eco-Plan: Green (RoHS & no Sb/Br); Slew Rate(Typ)(V/us): 100; Vio(Max)(mV): 2; Mounting Technology: Surface Mount; Code_JEDEC: MO-187; ComponentLink1Description: Manufacturer URL; ComponentLink1URL: http://www.ti.com/; ComponentLink2Description: Datasheet; ComponentLink2URL: http://www.ti.com/general/docs/lit/getliterature.tsp?genericPartNumber=THS4032&fileType=pdf; ComponentLink3Description: Package Specification; ComponentLink3URL: http://www.ti.com/litv/pdf/mpds046e
footprint TI-DGN8-1760X1425TP_N (SOP, 8-Leads, Body 3x3mm, Pitch 0.65mm, Thermal Pad 1.76x1.425mm, IPC Medium Density)
footprint TI-DGN8-1760X1425TP_L (SOP, 8-Leads, Body 3x3mm, Pitch 0.65mm, Thermal Pad 1.76x1.425mm, IPC High Density)
footprint TI-DGN8-1760X1425TP_M (SOP, 8-Leads, Body 3x3mm, Pitch 0.65mm, Thermal Pad 1.76 x 1.425 mm, IPC Low Density)
pins on every part: 4 VCC- (power), 8 VCC+ (power), 9 EP
part A pins: 1 OUT1 (out), 2 IN1- (in), 3 IN1+ (in)
part B pins: 5 IN2+ (in), 6 IN2- (in), 7 OUT2 (out)

## THS4032IDR
designator U?
100 MHz Low Noise Voltage-Feedback Amplifier, Dual, 9 to 32 V, -40 to 85 degC, 8-pin SOIC (D8), Green (RoHS & no Sb/Br); Manufacturer: Texas Instruments; PartNumber: THS4032IDR; 2nd Harmonic(dBc): 55; 3rd Harmonic(dBc): 62; @ MHz: 5; Acl, min stable gain(V/V): 1; BW @ Acl(MHz): 100; Diff Gain(%): 0.015; Diff Phase(deg): 0.025; Iib(Max)(nA): 8000; Io(Typ)(mA): 90; Iq per channel(Max)(mA): 11; Number of Channels: 2; Settling Time (0.1%)(Typ)(ns): 60; Sub Family: High Output Current Amplifier (>=50mA), High Speed Amplifier (>=50MHz), High Supply Voltage Amplifier (>=30V); THD (Fc is 1 MHz)(Typ)(dB): -72; Vn at Flatband(Typ)(nV/rtHz): 1.6; Vs(Max)(V): 32; Vs(Min)(V): 9; DatasheetVersion: SLOS224G; PackageVersion: 4040047-3/M, 06/2011; PackageReference: D8; PackageDescription: 8-Pin Plastic Small Outline, Body 4.9 x 3.9 mm, Pitch 1.27 mm; Supplier 1: Digi-Key; Supplier Part Number 1: THS4032IDR-ND; Supplier 2: Mouser; Supplier Part Number 2: 595-THS4032IDR; Eco-Plan: Green (RoHS & no Sb/Br); Slew Rate(Typ)(V/us): 100; Vio(Max)(mV): 2; Mounting Technology: Surface Mount; Code_JEDEC: MS-012; ComponentLink1Description: Manufacturer URL; ComponentLink1URL: http://www.ti.com/; ComponentLink2Description: Datasheet; ComponentLink2URL: http://www.ti.com/general/docs/lit/getliterature.tsp?genericPartNumber=THS4032&fileType=pdf; ComponentLink3Description: Package Specification; ComponentLink3URL: http://www.ti.com/litv/pdf/msoi002j
footprint TI-D8_N (SOIC, 8-Leads, Body 4.9x3.9mm, Pitch 1.27mm, IPC Medium Density)
footprint TI-D8_L (SOIC, 8-Leads, Body 4.9x3.9mm, Pitch 1.27mm, IPC High Density)
footprint TI-D8_M (SOIC, 8-Leads, Body 4.9x3.9mm, Pitch 1.27mm, IPC Low Density)
pins on every part: 4 VCC- (power), 8 VCC+ (power)
part A pins: 1 OUT1 (out), 2 IN1- (in), 3 IN1+ (in)
part B pins: 5 IN2+ (in), 6 IN2- (in), 7 OUT2 (out)

## THS4032IDRG4
designator U?
100 MHz Low Noise Voltage-Feedback Amplifier, Dual, 9 to 32 V, -40 to 85 degC, 8-pin SOIC (D8), Green (RoHS & no Sb/Br); Manufacturer: Texas Instruments; PartNumber: THS4032IDRG4; 2nd Harmonic(dBc): 55; 3rd Harmonic(dBc): 62; @ MHz: 5; Acl, min stable gain(V/V): 1; BW @ Acl(MHz): 100; Diff Gain(%): 0.015; Diff Phase(deg): 0.025; Iib(Max)(nA): 8000; Io(Typ)(mA): 90; Iq per channel(Max)(mA): 11; Number of Channels: 2; Settling Time (0.1%)(Typ)(ns): 60; Sub Family: High Output Current Amplifier (>=50mA), High Speed Amplifier (>=50MHz), High Supply Voltage Amplifier (>=30V); THD (Fc is 1 MHz)(Typ)(dB): -72; Vn at Flatband(Typ)(nV/rtHz): 1.6; Vs(Max)(V): 32; Vs(Min)(V): 9; DatasheetVersion: SLOS224G; PackageVersion: 4040047-3/M, 06/2011; PackageReference: D8; PackageDescription: 8-Pin Plastic Small Outline, Body 4.9 x 3.9 mm, Pitch 1.27 mm; Supplier 1: Digi-Key; Supplier Part Number 1: THS4032IDRG4-ND; Supplier 2: Mouser; Supplier Part Number 2: 595-THS4032IDRG4; Eco-Plan: Green (RoHS & no Sb/Br); Slew Rate(Typ)(V/us): 100; Vio(Max)(mV): 2; Mounting Technology: Surface Mount; Code_JEDEC: MS-012; ComponentLink1Description: Manufacturer URL; ComponentLink1URL: http://www.ti.com/; ComponentLink2Description: Datasheet; ComponentLink2URL: http://www.ti.com/general/docs/lit/getliterature.tsp?genericPartNumber=THS4032&fileType=pdf; ComponentLink3Description: Package Specification; ComponentLink3URL: http://www.ti.com/litv/pdf/msoi002j
footprint TI-D8_N (SOIC, 8-Leads, Body 4.9x3.9mm, Pitch 1.27mm, IPC Medium Density)
footprint TI-D8_L (SOIC, 8-Leads, Body 4.9x3.9mm, Pitch 1.27mm, IPC High Density)
footprint TI-D8_M (SOIC, 8-Leads, Body 4.9x3.9mm, Pitch 1.27mm, IPC Low Density)
pins on every part: 4 VCC- (power), 8 VCC+ (power)
part A pins: 1 OUT1 (out), 2 IN1- (in), 3 IN1+ (in)
part B pins: 5 IN2+ (in), 6 IN2- (in), 7 OUT2 (out)

## THS4032MDGNREP
designator U?
Enhanced Product 100 MHz Low-Noise High-Speed Amplifier, 9 to 32 V, -55 to 125 degC, 8-pin SOP (DGN8), Green (RoHS & no Sb/Br); Manufacturer: Texas Instruments; PartNumber: THS4032MDGNREP; 2nd Harmonic(dBc): 55; 3rd Harmonic(dBc): 62; @ MHz: 5; Acl, min stable gain(V/V): 1; BW @ Acl(MHz): 100; Diff Gain(%): 0.015; Diff Phase(deg): 0.025; Iib(Max)(nA): 8000; Io(Typ)(mA): 90; Iq per channel(Max)(mA): 8.5; Number of Channels: 2; Settling Time (0.1%)(Typ)(ns): 60; Sub Family: High Output Current Amplifier (>=50mA), High Speed Amplifier (>=50MHz), High Supply Voltage Amplifier (>=30V); THD (Fc is 1 MHz)(Typ)(dB): -96; Vn at Flatband(Typ)(nV/rtHz): 1.6; Vs(Max)(V): 32; Vs(Min)(V): 9; DatasheetVersion: SLOS610; PackageVersion: 4073271/F, 05/2011; PackageReference: DGN8-1760X1425TP; PackageDescription: 8-pin Plastic Small Outline, Body 3 x 3 mm, Pitch 0.65 mm; Supplier 1: Digi-Key; Supplier Part Number 1: 296-24006-2-ND; Supplier 2: Digi-Key; Supplier Part Number 2: 296-24006-1-ND; Supplier 3: Digi-Key; Supplier Part Number 3: 296-24006-6-ND; Supplier 4: Newark; Supplier Part Number 4: 34P6382; Supplier 5: Mouser; Supplier Part Number 5: 595-THS4032MDGNREP; Eco-Plan: Green (RoHS & no Sb/Br); Slew Rate(Typ)(V/us): 100; Vio(Max)(mV): 2; Mounting Technology: Surface Mount; Code_JEDEC: MO-187; ComponentLink1Description: Manufacturer URL; ComponentLink1URL: http://www.ti.com/; ComponentLink2Description: Datasheet; ComponentLink2URL: http://www.ti.com/general/docs/lit/getliterature.tsp?genericPartNumber=THS4032-EP&fileType=pdf; ComponentLink3Description: Package Specification; ComponentLink3URL: http://www.ti.com/litv/pdf/mpds046e
footprint TI-DGN8-1760X1425TP_N (SOP, 8-Leads, Body 3x3mm, Pitch 0.65mm, Thermal Pad 1.76x1.425mm, IPC Medium Density)
footprint TI-DGN8-1760X1425TP_L (SOP, 8-Leads, Body 3x3mm, Pitch 0.65mm, Thermal Pad 1.76x1.425mm, IPC High Density)
footprint TI-DGN8-1760X1425TP_M (SOP, 8-Leads, Body 3x3mm, Pitch 0.65mm, Thermal Pad 1.76 x 1.425 mm, IPC Low Density)
pins on every part: 4 VCC- (power), 8 VCC+ (power), 9 EP
part A pins: 1 OUT1 (out), 2 IN1- (in), 3 IN1+ (in)
part B pins: 5 IN2+ (in), 6 IN2- (in), 7 OUT2 (out)

## THS4041CD
designator U?
165 MHz C-Stable Voltage-Feedback Amplifier, 9 to 32 V, 0 to 70 degC, 8-pin SOIC (D8), Green (RoHS & no Sb/Br); Manufacturer: Texas Instruments; PartNumber: THS4041CD; 2nd Harmonic(dBc): 75; 3rd Harmonic(dBc): 88; @ MHz: 1; BW @ Acl(MHz): 165; Diff Gain(%): 0.01; Iib(Max)(nA): 6000; Io(Typ)(mA): 100; Iq per channel(Max)(mA): 11; Settling Time (0.1%)(Typ)(ns): 120; Slew Rate(Typ)(V/us): 400; Sub Family: High Output Current Amplifier (>=50mA), High Speed Amplifier (>=50MHz), High Supply Voltage Amplifier (>=30V); THD (Fc is 1 MHz)(Typ)(dB): -75; Vio(Max)(mV): 10; Vn at Flatband(Typ)(nV/rtHz): 14; Vs(Max)(V): 32; Vs(Min)(V): 9; DatasheetVersion: SLOS237B; PackageVersion: 4040047-3/M, 06/2011; PackageReference: D8; PackageDescription: 8-Pin Plastic Small Outline, Body 4.9 x 3.9 mm, Pitch 1.27 mm; Supplier 1: Digi-Key; Supplier Part Number 1: 296-2407-5-ND; Supplier 2: Newark; Supplier Part Number 2: 19C8974; Supplier 3: Mouser; Supplier Part Number 3: 595-THS4041CD; Acl, min stable gain(V/V): 1; Diff Phase(deg): 0.01; Eco-Plan: Green (RoHS & no Sb/Br); Number of Channels: 1; Mounting Technology: Surface Mount; Code_JEDEC: MS-012; ComponentLink1Description: Manufacturer URL; ComponentLink1URL: http://www.ti.com/; ComponentLink2Description: Datasheet; ComponentLink2URL: http://www.ti.com/general/docs/lit/getliterature.tsp?genericPartNumber=THS4041&fileType=pdf; ComponentLink3Description: Package Specification; ComponentLink3URL: http://www.ti.com/litv/pdf/msoi002j
footprint TI-D8_N (SOIC, 8-Leads, Body 4.9x3.9mm, Pitch 1.27mm, IPC Medium Density)
footprint TI-D8_L (SOIC, 8-Leads, Body 4.9x3.9mm, Pitch 1.27mm, IPC High Density)
footprint TI-D8_M (SOIC, 8-Leads, Body 4.9x3.9mm, Pitch 1.27mm, IPC Low Density)
pins: 1 NULL (in), 2 IN- (in), 3 IN+ (in), 4 VCC- (power), 5 NC, 6 OUT (out), 7 VCC+ (power), 8 NULL (in)